# Altium schematic symbol library Conn_Molex_39-30-1020_eec.SchLib: 1 symbol
Pins are listed as number, name and electrical type; pins without a type are passive.

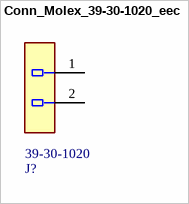
[diagram p0: symbol Conn_Molex_39-30-1020_eec]

## Conn_Molex_39-30-1020_eec
designator J?  Part Number: 39-30-1020
CONN HEADER 2POS 4.2MM R/A TIN; Manufacturer: Molex; Approved Alternate Part Number: WM1351-ND; helpURL: https://upverter.com/upn/revision/2b7531b2fb9fee48/; ComponentLink2Description: Datasheet; Temperature: -40°C to +105°C; Package: HDR02; Supplier 2: Mouser; Price: 0.386810002876; Supplier 1: Digi-Key; ComponentLink1URL: https://upverter.com/upn/revision/2b7531b2fb9fee48/; Supplier Part Number 2: 538-39-30-1020; Supplier Part Number 1: WM1351-ND; ComponentLink1Description: Upverter; ComponentLink2URL: http://www.molex.com/pdm_docs/sd/039301020_sd.pdf; RoHS: TRUE; Mouser Part Number: 538-39-30-1020; Temperature Range High: +105°C; Digikey Description: CONN HEADER 2POS 4.2MM R/A TIN; Digikey Part Number: WM1351-ND; Lead Free: yes; Temperature Range Low: -40°C
footprint Molex_39-30-1020_0
pins: 1, 2